# EAGLE library part LTC4425-MSOP12 (library Neel)
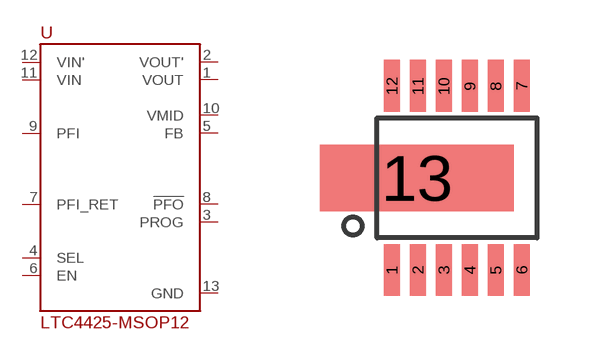
[diagram p24: symbol with the pads of MSOP-12; footprint MSOP-12]

Designator prefix -

## LTC4425-MSOP12  [MSOP-12]
1  VOUT
2  VOUT'
3  PROG
4  SEL
5  FB
6  EN
7  PFI_RET
8  !PFO
9  PFI
10  VMID
11  VIN
12  VIN'
13  GND

## Footprint MSOP-12 (pad centres in mm)
smd 0.4 x 1.3: 1 -1.625,-2.3; 2 -0.975,-2.3; 3 -0.325,-2.3; 4 0.325,-2.3; 5 0.975,-2.3; 6 1.625,-2.3; 7 1.625,2.3; 8 0.975,2.3; 9 0.325,2.3; 10 -0.325,2.3; 11 -0.975,2.3; 12 -1.625,2.3
smd 4.845 x 1.651: 13 -1,0